# Altium footprint library PCB - LEADLESS - DFN - QORVO QPL9547.PcbLib: 1 footprints
Each footprint in its own frame and in the unit in brackets; x right, y up, seen from the top. Pads: shape width x height; smd on the part's side, far side on the other; paste and mask are expansions set on the pad; w line width, h text height; cw(c..) or ccw(c..) is an arc to the next point about the centre after c.
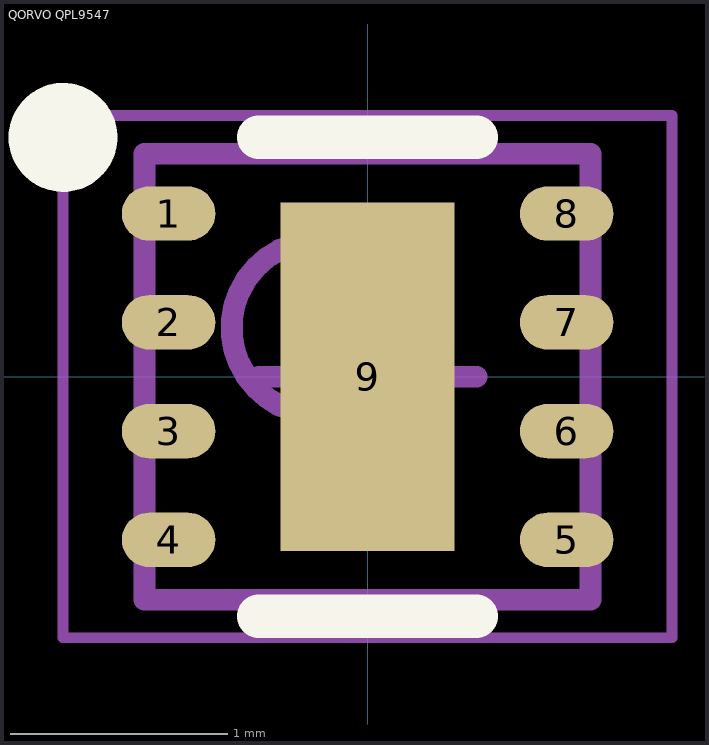
[diagram p0: the footprint, top view; thin cyan lines are the x and y axes]

## QORVO QPL9547 [mm] "DFN, 8-Leads, Body 2.00x2.00mm, Pitch 0.50mm, Thermal Pad 0.80x1.60mm"
height 0.95
pads (9):
  oval 0.43x0.25 smd: 1(-0.915,0.75) 2(-0.915,0.25) 3(-0.915,-0.25) 4(-0.915,-0.75) 5(0.915,-0.75) 6(0.915,-0.25) 7(0.915,0.25) 8(0.915,0.75)
  rect 0.8x1.6 smd: 9(0,0)
Top Overlay:
  circle w0.25: c-1.4,1.1 r0.125
  lines w0.2: -0.5,-1.1 0.5,-1.1 ; -0.5,1.1 0.5,1.1
Mechanical 13:
  circle w0.1: c-0.225,0.225 r0.4
  lines w0.1: -1.025,-1.025 1.025,-1.025 1.025,1.025 -1.025,1.025 -1.025,-1.025
Mechanical 15:
  lines w0.05: -1.4,-1.2 -1.4,1.2 1.4,1.2 1.4,-1.2 -1.4,-1.2
  lines w0.1: -0.5,0 0.5,0 ; 0,-0.5 0,0.5
3D body "QORVO QPL9547.step": height 0.95, standoff 0, extent -1.035,-1.025 1.035,1.025